# EAGLE library part SSW-118-21-F-D (library SSW11821FD)
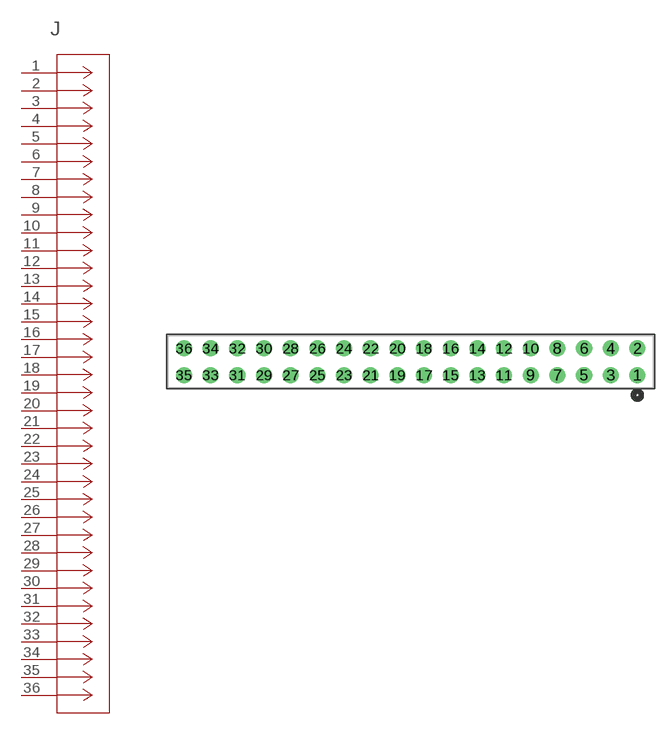
[diagram p0: symbol with the pads of CON36_2X18_TU_SSQ; footprint CON36_2X18_TU_SSQ]

Designator prefix J

## SSW-118-21-F-D (BUILT_BY: EMA_UL_Team; MANUFACTURER_PART_NUMBER: SSW-118-21-F-D; VENDOR: Samtec Inc)  [CON36_2X18_TU_SSQ]
1  1  pas
2  2  pas
3  3  pas
4  4  pas
5  5  pas
6  6  pas
7  7  pas
8  8  pas
9  9  pas
10  10  pas
11  11  pas
12  12  pas
13  13  pas
14  14  pas
15  15  pas
16  16  pas
17  17  pas
18  18  pas
19  19  pas
20  20  pas
21  21  pas
22  22  pas
23  23  pas
24  24  pas
25  25  pas
26  26  pas
27  27  pas
28  28  pas
29  29  pas
30  30  pas
31  31  pas
32  32  pas
33  33  pas
34  34  pas
35  35  pas
36  36  pas

## Footprint CON36_2X18_TU_SSQ (pad centres in mm)
drill 1.016 pad 1.524: 1 21.59,-1.27; 2 21.59,1.27; 3 19.05,-1.27; 4 19.05,1.27; 5 16.51,-1.27; 6 16.51,1.27; 7 13.97,-1.27; 8 13.97,1.27; 9 11.43,-1.27; 10 11.43,1.27; 11 8.89,-1.27; 12 8.89,1.27; 13 6.35,-1.27; 14 6.35,1.27; 15 3.81,-1.27; 16 3.81,1.27; 17 1.27,-1.27; 18 1.27,1.27; 19 -1.27,-1.27; 20 -1.27,1.27; 21 -3.81,-1.27; 22 -3.81,1.27; 23 -6.35,-1.27; 24 -6.35,1.27; 25 -8.89,-1.27; 26 -8.89,1.27; 27 -11.43,-1.27; 28 -11.43,1.27; 29 -13.97,-1.27; 30 -13.97,1.27; 31 -16.51,-1.27; 32 -16.51,1.27; 33 -19.05,-1.27; 34 -19.05,1.27; 35 -21.59,-1.27; 36 -21.59,1.27